# EAGLE library part 7W32* (library 7SH)
Dual OR
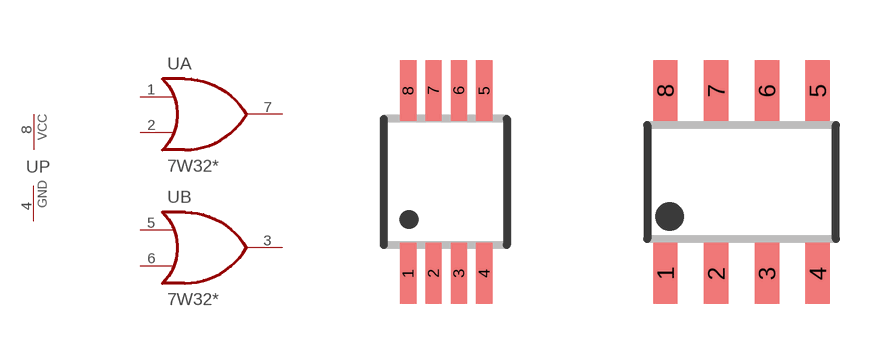
[diagram p2: symbol with the pads of TSSOP8-0D65; footprints TSSOP8-0D65, FM8]

Designator prefix U; gates A=GATE_OR B=GATE_OR P=PWRGNDV

## 7W32FUT  [TSSOP8-0D65]
1  A:A  in
2  A:B  in
3  B:OUT  out
4  P:GND  pwr
5  B:A  in
6  B:B  in
7  A:OUT  out
8  P:VCC  pwr

## 7W32F  [FM8]
Pads as for TSSOP8-0D65

## Footprint TSSOP8-0D65 (pad centres in mm)
smd 0.406 x 1.524: 1 -0.953,-2.286; 2 -0.318,-2.286; 3 0.318,-2.286; 4 0.953,-2.286; 5 0.953,2.286; 6 0.318,2.286; 7 -0.318,2.286; 8 -0.953,2.286

## Footprint FM8 (pad centres in mm)
smd 0.61 x 1.524: 1 -1.905,-2.286; 2 -0.635,-2.286; 3 0.635,-2.286; 4 1.905,-2.286; 5 1.905,2.286; 6 0.635,2.286; 7 -0.635,2.286; 8 -1.905,2.286